# Altium footprint library ble_ac_rc_lib.PcbLib: 62 footprints (part 2 of 4)
Each footprint in its own frame and in the unit in brackets; x right, y up, seen from the top. Pads: shape width x height; smd on the part's side, far side on the other; paste and mask are expansions set on the pad; w line width, h text height; cw(c..) or ccw(c..) is an arc to the next point about the centre after c.
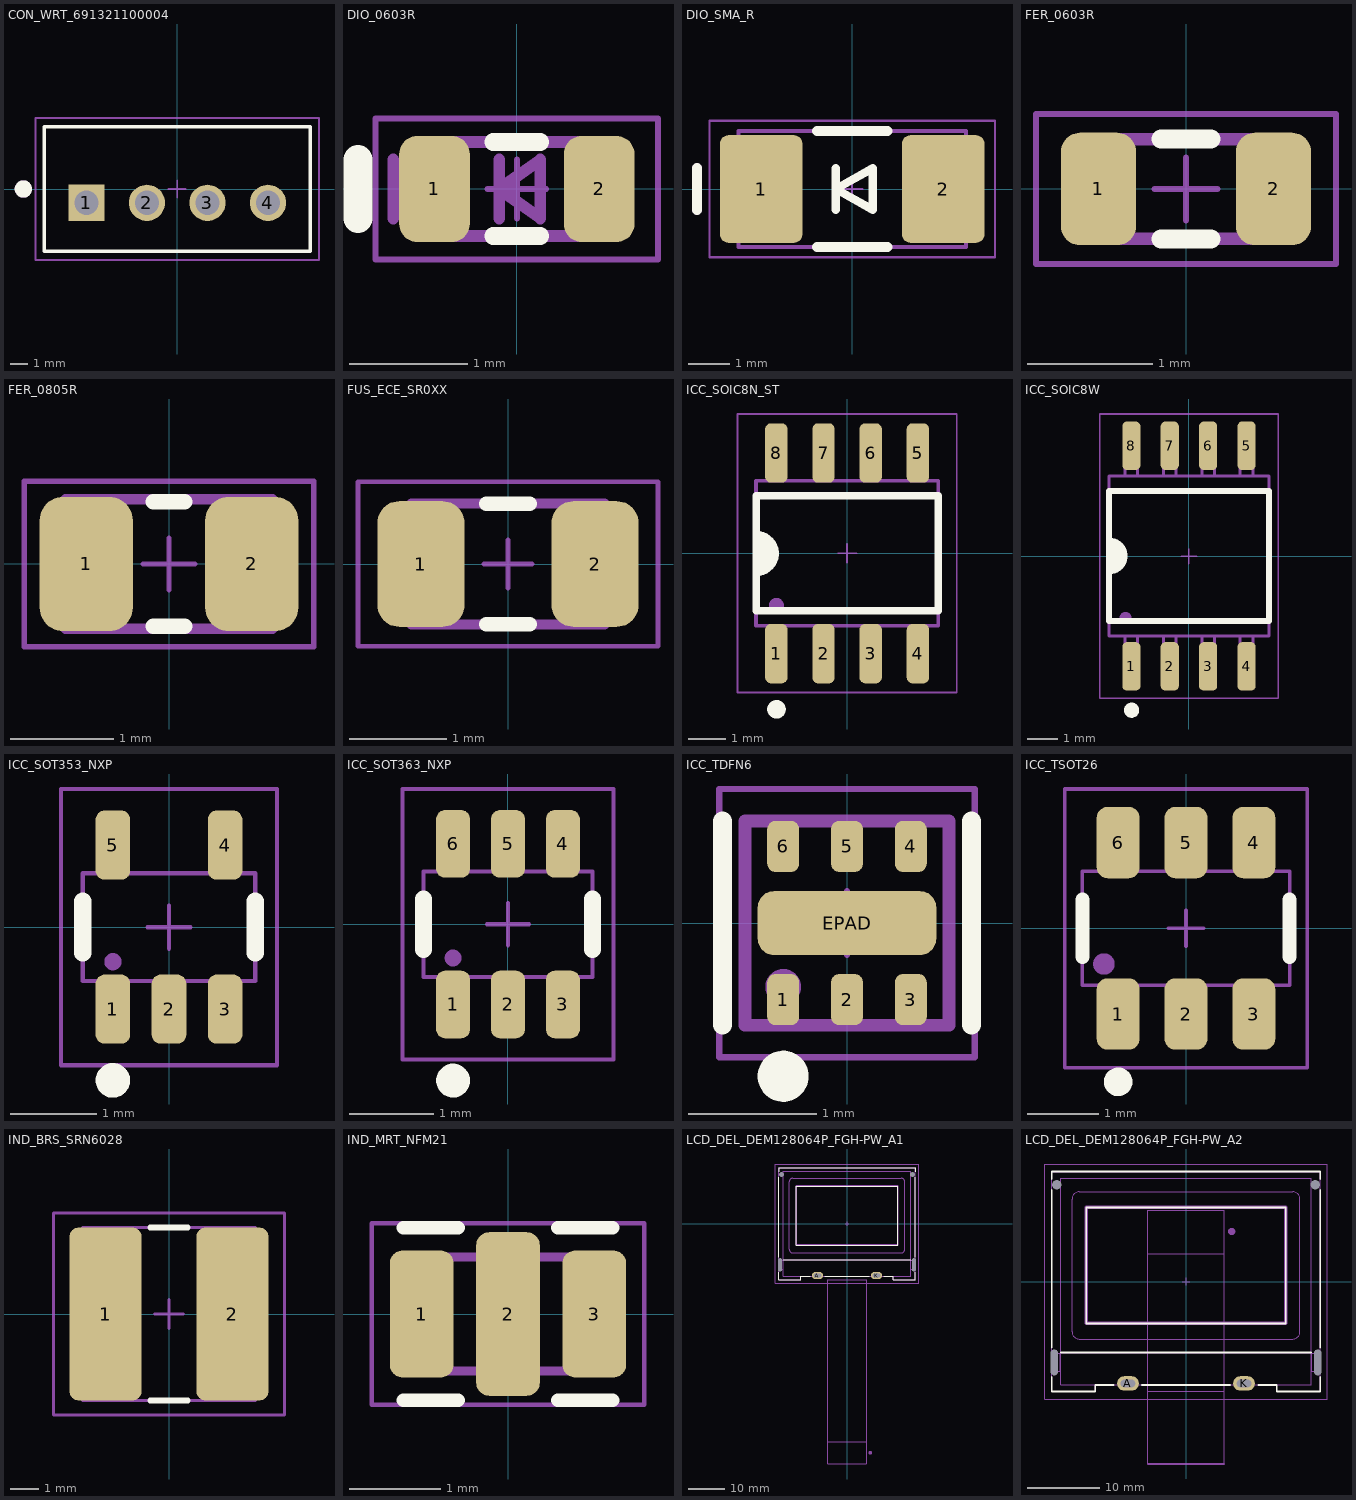
[diagram p1: the footprints below, top view; thin cyan lines are the x and y axes]

## CON_WRT_691321100004 [mm]
pads (4):
  rect 2.1x2.1 hole 1.4: 1(-5.25,-0.8)
  round 2.1 hole 1.4: 2(-1.75,-0.8) 3(1.75,-0.8) 4(5.25,-0.8)
Silkscreen Top:
  circle w0.5: c-8.9,0 r0.25
  lines w0.2: -7.7,-3.6 7.7,-3.6 7.7,3.6 -7.7,3.6 -7.7,-3.6
M21 AssemblyTHTTop:
  circle w0.5: c-8.9,0 r0.25
  lines w0.1: -7.7,-3.6 7.7,-3.6 7.7,3.6 -7.7,3.6 -7.7,-3.6
  text ".Designator" at -7.1,-1.4 h1.4
M23 CourtyardTop:
  lines w0.1: -0.5,0 0.5,0 ; 0,-0.5 0,0.5 ; -8.2,-4.1 -8.2,4.1 8.2,4.1 8.2,-4.1 -8.2,-4.1
3D body "691321100004.stp": height 9.3, standoff -3.4, extent -7.7,-3.6 7.7,3.6

## DIO_0603R [mm]
pads (2):
  rrect50% 0.6x0.9 smd: 1(-0.7,0) 2(0.7,0)
Silkscreen Top:
  lines w0.15: -0.2,-0.4 0.2,-0.4 ; -0.2,0.4 0.2,0.4
  lines w0.25: -1.35,-0.25 -1.35,0.25
M19 AssemblySMDTop:
  lines w0.1: -1.05,-0.25 -1.05,0.25 ; -0.15,-0.25 -0.15,0.25 ; -0.8,-0.4 -0.8,0.4 0.8,0.4 0.8,-0.4 -0.8,-0.4 ; -0.15,0 0.2,-0.25 0.2,0.25 -0.15,0
  text ".Designator" at -0.6,-0.15 h0.4
M23 CourtyardTop:
  lines w0.05: -0.25,0 0.25,0 ; 0,-0.25 0,0.25 ; -1.2,-0.6 -1.2,0.6 1.2,0.6 1.2,-0.6 -1.2,-0.6
3D body "DIODE_0603.step": height 0.56, standoff 0, extent -0.85,-0.4 0.85,0.4

## DIO_SMA_R [mm]
pads (2):
  rrect20% 2x2.6 smd: 1(-2.2,0)
  rrect20% 2x2.6 smd paste+0: 2(2.2,0)
Silkscreen Top:
  lines w0.2: -0.4,-0.5 -0.4,0.5 ; -0.4,0 0.5,-0.5 0.5,0.5 -0.4,0
  lines w0.25: -3.75,-0.5 -3.75,0.5 ; -0.85,-1.4 0.85,-1.4 ; -0.85,1.4 0.85,1.4
M19 AssemblySMDTop:
  lines w0.1: -0.4,-0.5 -0.4,0.5 ; -2.75,-1.4 -2.75,1.4 2.75,1.4 2.75,-1.4 -2.75,-1.4 ; -0.4,0 0.5,0.5 0.5,-0.5 -0.4,0
  lines w0.25: -3.75,-0.5 -3.75,0.5
  text ".Designator" at -2.4,-0.35 h1
M23 CourtyardTop:
  lines w0.05: -0.25,0 0.25,0 ; 0,-0.25 0,0.25 ; -3.45,-1.65 3.45,-1.65 3.45,1.65 -3.45,1.65 -3.45,-1.65
3D body "DO-214AC(SMA).step": height 2.39, standoff 0.11, extent -2.743,-1.397 2.743,1.397

## FER_0603R [mm]
pads (2):
  rrect50% 0.6x0.9 smd: 1(-0.7,0) 2(0.7,0)
Silkscreen Top:
  lines w0.15: -0.2,-0.4 0.2,-0.4 ; -0.2,0.4 0.2,0.4
M19 AssemblySMDTop:
  lines w0.1: -0.8,-0.4 -0.8,0.4 0.8,0.4 0.8,-0.4 -0.8,-0.4
  text ".Designator" at -0.6,-0.15 h0.4
M23 CourtyardTop:
  lines w0.05: -0.25,0 0.25,0 ; 0,-0.25 0,0.25 ; -1.2,-0.6 -1.2,0.6 1.2,0.6 1.2,-0.6 -1.2,-0.6
3D body "0603FB.stp": height 0.8, standoff 0, extent -0.8,-0.4 0.8,0.4

## FER_0805R [mm]
pads (2):
  rrect50% 0.9x1.3 smd: 1(-0.8,0) 2(0.8,0)
Silkscreen Top:
  lines w0.15: -0.15,-0.6 0.15,-0.6 ; -0.15,0.6 0.15,0.6
M19 AssemblySMDTop:
  lines w0.1: -1,-0.625 -1,0.625 1,0.625 1,-0.625 -1,-0.625
  text ".Designator" at -1.025,-0.275 h0.64
M23 CourtyardTop:
  lines w0.05: -0.25,0 0.25,0 ; 0,-0.25 0,0.25 ; -1.4,-0.8 -1.4,0.8 1.4,0.8 1.4,-0.8 -1.4,-0.8
3D body "STEP-WE-CBF-0805-rev1.stp": height 0.9, standoff 0, extent -1,-0.6 1,0.6

## FUS_ECE_SR0XX [mm]
pads (2):
  rrect50% 0.9x1.3 smd: 1(-0.9,0) 2(0.9,0)
Silkscreen Top:
  lines w0.15: -0.225,-0.625 0.225,-0.625 ; -0.225,0.625 0.225,0.625
M19 AssemblySMDTop:
  lines w0.1: -1,-0.625 1,-0.625 1,0.625 -1,0.625 -1,-0.625
  text ".Designator" at -1.025,-0.275 h0.64
M23 CourtyardTop:
  lines w0.05: -0.25,0 0.25,0 ; 0,-0.25 0,0.25 ; -1.55,-0.85 1.55,-0.85 1.55,0.85 -1.55,0.85 -1.55,-0.85
3D body "0805L010YR.stp": height 1, standoff 0, extent -1.05,-0.675 1.05,0.675

## ICC_SOIC8N_ST [mm]
pads (8):
  rrect50% 0.6x1.6 smd: 1(-1.905,-2.7) 2(-0.635,-2.7) 3(0.635,-2.7) 4(1.905,-2.7) 5(1.905,2.7) 6(0.635,2.7) 7(-0.635,2.7) 8(-1.905,2.7)
Silkscreen Top:
  circle w0.25: c-1.9,-4.2 r0.125
  region: -2.135,-0.456 -2.135,0.44 -2.395,0.44 -2.395,-0.456
  region: -2.025,-0.3 -2.025,0.29 -2.177,0.29 -2.177,-0.3
  lines w0.2: -2.45,-1.55 -2.45,1.55 2.45,1.55 2.45,-1.55 -2.45,-1.55
  lines w0.203: -2.447,-0.513 ccw(c-2.447,-0.005) -2.447,0.503
M19 AssemblySMDTop:
  circle w0.2: c-1.9,-1.4 r0.1
  lines w0.1: -2.115,-1.95 -2.115,-3 -1.695,-3 -1.695,-1.95 ; -2.115,1.95 -2.115,3 -1.695,3 -1.695,1.95 ; -0.845,-1.95 -0.845,-3 -0.425,-3 -0.425,-1.95 ; -0.845,1.95 -0.845,3 -0.425,3 -0.425,1.95 ; 0.425,-1.95 0.425,-3 0.845,-3 0.845,-1.95 ; 0.425,1.95 0.425,3 0.845,3 0.845,1.95 ; 1.695,-1.95 1.695,-3 2.115,-3 2.115,-1.95 ; 1.695,1.95 1.695,3 2.115,3 2.115,1.95 ; -2.45,-1.95 2.45,-1.95 2.45,1.95 -2.45,1.95 -2.45,-1.95
  text ".Designator" at -1.8,-0.2 h1
M23 CourtyardTop:
  lines w0.05: -0.25,0 0.25,0 ; 0,-0.25 0,0.25 ; -2.95,-3.75 2.95,-3.75 2.95,3.75 -2.95,3.75 -2.95,-3.75
3D body "SOIC-8-1.step": height 1.75, standoff 0, extent -2.45,-3 2.45,3

## ICC_SOIC8W [mm]
pads (8):
  rrect50% 0.6x1.6 smd: 1(-1.905,-3.65) 2(-0.635,-3.65) 3(0.635,-3.65) 4(1.905,-3.65) 5(1.905,3.65) 6(0.635,3.65) 7(-0.635,3.65) 8(-1.905,3.65)
Silkscreen Top:
  circle w0.25: c-1.9,-5.1 r0.125
  region: -2.215,-0.28 -2.215,0.31 -2.367,0.31 -2.367,-0.28
  region: -2.325,-0.436 -2.325,0.46 -2.585,0.46 -2.585,-0.436
  lines w0.2: -2.65,-2.15 2.65,-2.15 2.65,2.15 -2.65,2.15 -2.65,-2.15
  lines w0.203: -2.637,-0.506 ccw(c-2.637,0.002) -2.637,0.51
M19 AssemblySMDTop:
  circle w0.2: c-2.1,-2.05 r0.1
  lines w0.1: -2.115,-2.65 -2.115,-3.955 -1.695,-3.955 -1.695,-2.65 ; -2.115,2.65 -2.115,3.955 -1.695,3.955 -1.695,2.65 ; -0.845,-2.65 -0.845,-3.955 -0.425,-3.955 -0.425,-2.65 ; -0.845,2.65 -0.845,3.955 -0.425,3.955 -0.425,2.65 ; 0.425,-2.65 0.425,-3.955 0.845,-3.955 0.845,-2.65 ; 0.425,2.65 0.425,3.955 0.845,3.955 0.845,2.65 ; 1.695,-2.65 1.695,-3.955 2.115,-3.955 2.115,-2.65 ; 1.695,2.65 1.695,3.955 2.115,3.955 2.115,2.65 ; -2.65,-2.65 2.65,-2.65 2.65,2.65 -2.65,2.65 -2.65,-2.65
  text ".Designator" at -2.025,-0.35 h1
M23 CourtyardTop:
  lines w0.05: -0.25,0 0.25,0 ; 0,-0.25 0,0.25 ; -2.95,-4.7 -2.95,4.7 2.95,4.7 2.95,-4.7 -2.95,-4.7
3D body "SO-8W.STEP": height 1.95, standoff 0, extent -2.65,-3.95 2.65,3.95

## ICC_SOT353_NXP [mm]
pads (5):
  rrect50% 0.4x0.8 smd: 1(-0.65,-0.95) 2(0,-0.95) 3(0.65,-0.95) 4(0.65,0.95) 5(-0.65,0.95)
Silkscreen Top:
  circle w0.2: c-0.65,-1.775 r0.1
  lines w0.2: -1,-0.3 -1,0.3 ; 1,-0.3 1,0.3
M19 AssemblySMDTop:
  circle w0.1: c-0.65,-0.4 r0.05
  lines w0.05: -0.75,-0.625 -0.75,-1.05 -0.55,-1.05 -0.55,-0.625 ; -0.75,0.625 -0.75,1.05 -0.55,1.05 -0.55,0.625 ; -0.1,-0.625 -0.1,-1.05 0.1,-1.05 0.1,-0.625 ; 0.55,-0.625 0.55,-1.05 0.75,-1.05 0.75,-0.625 ; 0.55,0.625 0.55,1.05 0.75,1.05 0.75,0.625 ; -1,-0.625 1,-0.625 1,0.625 -1,0.625 -1,-0.625
  text ".Designator" at -0.8,-0.15 h0.5
M23 CourtyardTop:
  lines w0.05: -0.25,0 0.25,0 ; 0,-0.25 0,0.25 ; -1.25,-1.6 -1.25,1.6 1.25,1.6 1.25,-1.6 -1.25,-1.6
3D body "SC70-5-1.step": height 0.95, standoff 0, extent -1,-1.05 1,1.05
3D body: height 5.8, standoff -6, extent 1.85,1.25 1.85,1.25

## ICC_SOT363_NXP [mm]
pads (6):
  rrect50% 0.4x0.8 smd: 1(-0.65,-0.95) 2(0,-0.95) 3(0.65,-0.95) 4(0.65,0.95) 5(0,0.95) 6(-0.65,0.95)
Silkscreen Top:
  circle w0.2: c-0.65,-1.85 r0.1
  lines w0.2: -1,-0.3 -1,0.3 ; 1,-0.3 1,0.3
M19 AssemblySMDTop:
  circle w0.1: c-0.65,-0.4 r0.05
  lines w0.05: -0.75,-0.625 -0.75,-1.05 -0.55,-1.05 -0.55,-0.625 ; -0.75,0.625 -0.75,1.05 -0.55,1.05 -0.55,0.625 ; -0.1,-0.625 -0.1,-1.05 0.1,-1.05 0.1,-0.625 ; -0.1,0.625 -0.1,1.05 0.1,1.05 0.1,0.625 ; 0.55,-0.625 0.55,-1.05 0.75,-1.05 0.75,-0.625 ; 0.55,0.625 0.55,1.05 0.75,1.05 0.75,0.625 ; -1,-0.625 -1,0.625 1,0.625 1,-0.625 -1,-0.625
  text ".Designator" at -0.8,-0.175 h0.5
M23 CourtyardTop:
  lines w0.05: -0.25,0 0.25,0 ; 0,-0.25 0,0.25 ; -1.25,-1.6 -1.25,1.6 1.25,1.6 1.25,-1.6 -1.25,-1.6
3D body "SOT363_NXP.step": height 1, standoff 0.01, extent -1,-1.05 1,1.05

## ICC_TDFN6 [mm]
pads (7):
  rrect50% 0.25x0.4 smd: 1(-0.5,-0.6) 2(0,-0.6) 3(0.5,-0.6) 4(0.5,0.6) 5(0,0.6) 6(-0.5,0.6)
  rrect50% 1.4x0.5 smd paste-10 mask-10: EPAD(0,0)
Silkscreen Top:
  circle w0.2: c-0.5,-1.2 r0.1
  lines w0.15: -0.975,-0.8 -0.975,0.8 ; 0.975,-0.8 0.975,0.8
L23-Paste Mask Top (Multiple PADS layers...):
  rectangle: 0.125,-0.175 0.575,0.175
  region: -0.125,0.175 -0.575,0.175 -0.575,-0.175 -0.125,-0.175
Soldermask Top:
  region: -0.075,0.225 -0.625,0.225 -0.625,-0.225 -0.075,-0.225
  region: 0.625,0.225 0.075,0.225 0.075,-0.225 0.625,-0.225
M19 AssemblySMDTop:
  circle w0.14: c-0.5,-0.5 r0.07
  lines w0.1: -0.8,-0.8 -0.8,0.8 0.8,0.8 0.8,-0.8 -0.8,-0.8
  text ".Designator" at -0.55,-0.1 h0.6
M23 CourtyardTop:
  lines w0.05: -0.25,0 0.25,0 ; 0,-0.25 0,0.25 ; -1,-1.05 -1,1.05 1,1.05 1,-1.05 -1,-1.05
3D body "MicroFET-6.STEP": height 0.55, standoff 0, extent -0.8,-0.8 0.8,0.8

## ICC_TSOT26 [mm]
pads (6):
  rrect50% 0.6x1 smd: 1(-0.95,-1.2) 2(0,-1.2) 3(0.95,-1.2) 4(0.95,1.2) 5(0,1.2) 6(-0.95,1.2)
Silkscreen Top:
  circle w0.2: c-0.95,-2.15 r0.1
  lines w0.2: -1.45,-0.4 -1.45,0.4 ; 1.45,-0.4 1.45,0.4
M19 AssemblySMDTop:
  circle w0.15: c-1.15,-0.5 r0.075
  lines w0.05: -1.15,-0.8 -1.15,-1.4 -0.75,-1.4 -0.75,-0.8 ; -1.15,0.8 -1.15,1.4 -0.75,1.4 -0.75,0.8 ; -0.2,-0.8 -0.2,-1.4 0.2,-1.4 0.2,-0.8 ; -0.2,0.8 -0.2,1.4 0.2,1.4 0.2,0.8 ; 0.75,-0.8 0.75,-1.4 1.15,-1.4 1.15,-0.8 ; 0.75,0.8 0.75,1.4 1.15,1.4 1.15,0.8 ; -1.45,-0.8 1.45,-0.8 1.45,0.8 -1.45,0.8 -1.45,-0.8
  text ".Designator" at -1.25,-0.15 h0.5
M23 CourtyardTop:
  lines w0.05: -0.25,0 0.25,0 ; 0,-0.25 0,0.25 ; -1.7,-1.95 1.7,-1.95 1.7,1.95 -1.7,1.95 -1.7,-1.95
3D body: height 5.8, standoff -6, extent 1.85,1.25 1.85,1.25
3D body "SOT23-6.step": height 1.45, standoff 0, extent -1.45,-1.4 1.45,1.4

## IND_BRS_SRN6028 [mm]
pads (2):
  rrect25% 2.5x6 smd: 1(-2.2,0) 2(2.2,0)
Silkscreen Top:
  lines w0.2: -0.65,-3 0.65,-3 ; -0.65,3 0.65,3
M19 AssemblySMDTop:
  lines w0.1: -3,-3 -3,3 3,3 3,-3 -3,-3
  text ".Designator" at -2.15,-0.7 h1.5
M23 CourtyardTop:
  lines w0.1: -0.5,0 0.5,0 ; 0,-0.5 0,0.5 ; -4,-3.5 -4,3.5 4,3.5 4,-3.5 -4,-3.5
3D body "Bourns_SRN6028.stp": height 2.9, standoff 0.01, extent -3.001,-3 3.001,3.002

## IND_MRT_NFM21 [mm]
pads (3):
  rrect40% 0.7x1.4 smd: 1(-0.95,0) 3(0.95,0)
  rrect40% 0.7x1.8 smd: 2(0,0)
Silkscreen Top:
  lines w0.15: -1.15,-0.95 -0.55,-0.95 ; -1.15,0.95 -0.55,0.95 ; 0.55,-0.95 1.15,-0.95 ; 0.55,0.95 1.15,0.95
M19 AssemblySMDTop:
  lines w0.1: -1,-0.625 -1,0.625 1,0.625 1,-0.625 -1,-0.625
  text ".Designator" at -0.725,-0.3 h0.64
M23 CourtyardTop:
  lines w0.05: -0.25,0 0.25,0 ; 0,-0.25 0,0.25 ; -1.5,-1 -1.5,1 1.5,1 1.5,-1 -1.5,-1
3D body "NFM21PC.step": height 0.87, standoff 0, extent -1.01,-0.635 1.01,0.635

## LCD_DEL_DEM128064P_FGH-PW_A1 [mm]
pads (6):
  oval 3x2 hole 1 slot 2 at 0 deg: A(-8,-14.05) K(8,-14.05)
  round 0 hole 1 slot 3.5 at 90 deg unplated mask+0.1: MH(-18.15,-11.15) MH(18.15,-11.15)
  round 0 hole 1.3 unplated mask+0.1: MH(-17.8,13.35) MH(17.8,13.35)
Silkscreen Top:
  lines w0.25: -18.5,-13.15 -18.5,-15.15 -12.5,-15.15 -12.5,-14.25 -9.95,-14.25 ; -18.5,-9.1 -18.5,12.6 ; -18.5,14.1 -18.5,15.15 18.5,15.15 18.5,14.1 ; -17.25,-9.8 17.25,-9.8 ; -6.1,-14.25 6.05,-14.25 ; 9.95,-14.25 12.5,-14.25 12.5,-15.15 18.5,-15.15 18.5,-13.15 ; 18.5,-9.1 18.5,12.6 ; -13.75,-5.765 13.75,-5.765 13.75,10.215 -13.75,10.215 -13.75,-5.765
M17 3DBodyTop:
  circle w0.5: c6.3,-62.1 r0.25
  lines w0.1: -17.8,-12.4 -17.8,-9.9 ; -5.25,-59.15 5.25,-59.15 ; 17.8,-12.4 17.8,-9.9 ; -18.5,-12.4 -17.3,-12.4 -17.3,-9.9 -18.5,-9.9 -18.5,-12.4 ; -9,-14.35 -7,-14.35 -7,-13.75 -9,-13.75 -9,-14.35 ; -5.25,-65.15 5.25,-65.15 5.25,-15.15 -5.25,-15.15 -5.25,-65.15 ; 7,-14.35 9,-14.35 9,-13.75 7,-13.75 7,-14.35 ; 17.3,-12.4 18.5,-12.4 18.5,-9.9 17.3,-9.9 17.3,-12.4
  text "BOTTOM CONTACTS" at -7.9,-67.4 h1
  text "20" at -4.9,-63.1 h1.5
  text "1" at 3.8,-63.1 h1.5
M21 AssemblyTHTTop:
  lines w0.1: -17.25,-9.8 17.25,-9.8 ; -12.5,-14.25 -12.5,-15.15 -18.5,-15.15 -18.5,15.15 18.5,15.15 18.5,-15.15 12.5,-15.15 12.5,-14.25 ; -17.25,-14.25 17.25,-14.25 17.25,14.25 -17.25,14.25 -17.25,-14.25 ; -15.7,-6.925 ccw(c-14.7,-6.925) -14.7,-7.925 14.7,-7.925 ccw(c14.7,-6.925) 15.7,-6.925 15.7,11.375 ccw(c14.7,11.375) 14.7,12.375 -14.7,12.375 ccw(c-14.7,11.375) -15.7,11.375 -15.7,-6.925
  lines w0.5: -13.75,-5.765 13.75,-5.765 13.75,10.215 -13.75,10.215 -13.75,-5.765
  text ".Designator" at -12.4,-1 h3
M23 CourtyardTop:
  lines w0.1: -0.5,0 0.5,0 ; 0,-0.5 0,0.5 ; -19.5,-16.2 -19.5,16.2 19.5,16.2 19.5,-16.2 -19.5,-16.2
3D body: height 4.7, standoff 0, extent -18.5,-15.15 18.5,15.15

## LCD_DEL_DEM128064P_FGH-PW_A2 [mm]
pads (6):
  oval 3x2 hole 1 slot 2 at 0 deg: A(-8,-14.05) K(8,-14.05)
  round 0 hole 1 slot 3.5 at 90 deg unplated mask+0.1: MH(-18.15,-11.15) MH(18.15,-11.15)
  round 0 hole 1.3 unplated mask+0.1: MH(-17.8,13.35) MH(17.8,13.35)
Silkscreen Top:
  lines w0.25: -18.5,-13.15 -18.5,-15.15 -12.5,-15.15 -12.5,-14.25 -9.95,-14.25 ; -18.5,-9.1 -18.5,12.6 ; -18.5,14.1 -18.5,15.15 18.5,15.15 18.5,14.1 ; -17.25,-9.8 17.25,-9.8 ; -6.1,-14.25 6.05,-14.25 ; 9.95,-14.25 12.5,-14.25 12.5,-15.15 18.5,-15.15 18.5,-13.15 ; 18.5,-9.1 18.5,12.6 ; -13.75,-5.765 13.75,-5.765 13.75,10.215 -13.75,10.215 -13.75,-5.765
M17 3DBodyTop:
  lines w0.1: -17.8,-12.4 -17.8,-9.9 ; -5.25,-25.15 -5.25,-15.15 5.25,-15.15 5.25,-25.15 ; 17.8,-12.4 17.8,-9.9 ; -18.5,-12.4 -18.5,-9.9 -17.3,-9.9 -17.3,-12.4 -18.5,-12.4 ; -9,-14.35 -9,-13.75 -7,-13.75 -7,-14.35 -9,-14.35 ; 7,-14.35 7,-13.75 9,-13.75 9,-14.35 7,-14.35 ; 17.3,-12.4 17.3,-9.9 18.5,-9.9 18.5,-12.4 17.3,-12.4
  lines w0.25: -5.25,-25.15 5.25,-25.15
  text "PCB EDGE" at -6,-27.9 h1.5
M18 3DBodyBot:
  circle w0.5: c6.3,6.9 r0.25
  lines w0.1: -5.25,-25.15 -5.25,9.85 5.25,9.85 5.25,-25.15 ; -5.25,3.85 5.25,3.85
  lines w0.25: -5.25,-25.15 5.25,-25.15
  text "PCB EDGE" at -6,-27.9 h1.5
  text "20" at -4.9,5.9 h1.5
  text "1" at 3.8,5.9 h1.5
  text "BOTTOM CONTACTS" at -7.9,10.1 h1
M21 AssemblyTHTTop:
  lines w0.1: -17.25,-9.8 17.25,-9.8 ; -12.5,-14.25 -12.5,-15.15 -18.5,-15.15 -18.5,15.15 18.5,15.15 18.5,-15.15 12.5,-15.15 12.5,-14.25 ; -17.25,-14.25 17.25,-14.25 17.25,14.25 -17.25,14.25 -17.25,-14.25 ; -15.7,-6.925 ccw(c-14.7,-6.925) -14.7,-7.925 14.7,-7.925 ccw(c14.7,-6.925) 15.7,-6.925 15.7,11.375 ccw(c14.7,11.375) 14.7,12.375 -14.7,12.375 ccw(c-14.7,11.375) -15.7,11.375 -15.7,-6.925
  lines w0.5: -13.75,-5.765 13.75,-5.765 13.75,10.215 -13.75,10.215 -13.75,-5.765
  text ".Designator" at -12.4,-1 h3
M23 CourtyardTop:
  lines w0.1: -0.5,0 0.5,0 ; 0,-0.5 0,0.5 ; -19.5,-16.2 -19.5,16.2 19.5,16.2 19.5,-16.2 -19.5,-16.2
3D body: height 4.7, standoff 0, extent -18.5,-15.15 18.5,15.15